# Altium schematic symbol library Leonardo.SCHLIB: 33 symbols
Pins are listed as number, name and electrical type; pins without a type are passive.

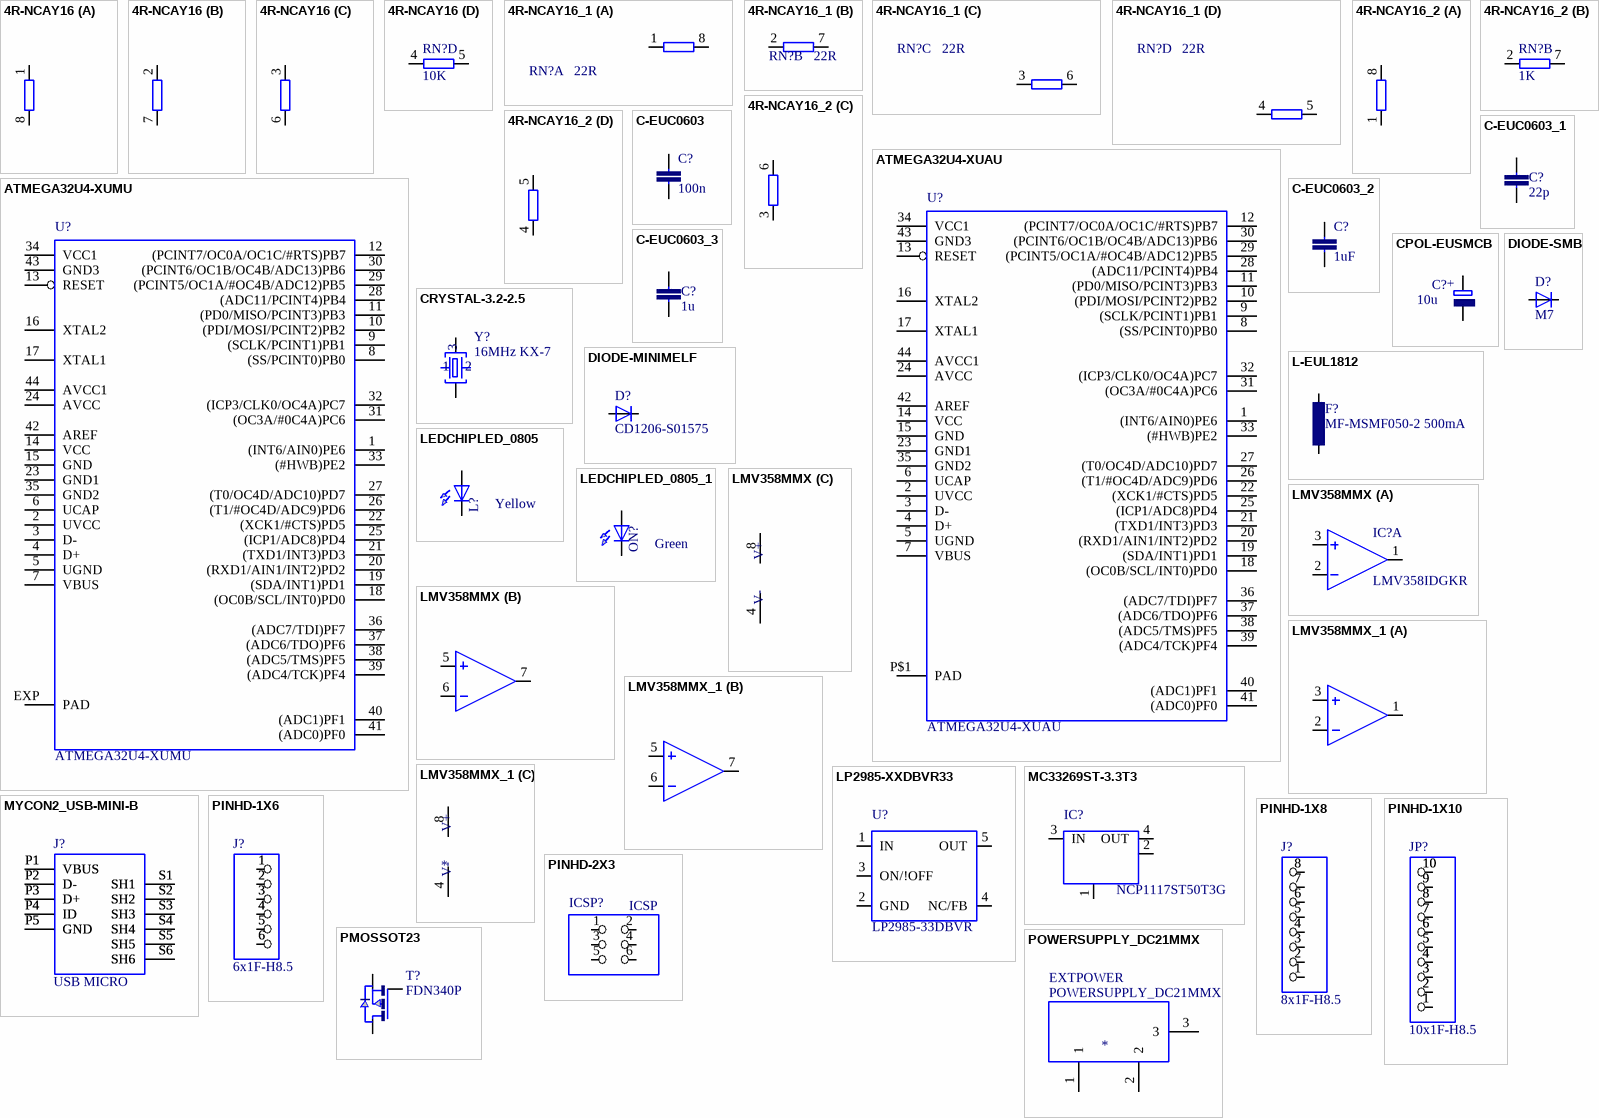
[diagram p0: symbols 4R-NCAY16 to POWERSUPPLY_DC21MMX]

## 4R-NCAY16
designator RN?, comment 10K
footprint CAY16
part A pins: 1, 8 2
part B pins: 2 1, 7 2
part C pins: 3 1, 6 2
part D pins: 4 1, 5 2

## 4R-NCAY16_1
designator RN?, comment 22R
footprint CAY16
part A pins: 1, 8 2
part B pins: 2 1, 7 2
part C pins: 3 1, 6 2
part D pins: 4 1, 5 2

## 4R-NCAY16_2
designator RN?, comment 1K
footprint CAY16
part A pins: 1, 8 2
part B pins: 2 1, 7 2
part C pins: 3 1, 6 2
part D pins: 4 1, 5 2

## ATMEGA32U4-XUAU
designator U?
footprint TQFP44-PAD
pins: 1 (INT6/AIN0)PE6, 2 UVCC, 3 D-, 4 D+, 5 UGND, 6 UCAP, 7 VBUS, 8 (SS/PCINT0)PB0, 9 (SCLK/PCINT1)PB1, 10 (PDI/MOSI/PCINT2)PB2, 11 (PD0/MISO/PCINT3)PB3, 12 (PCINT7/OC0A/OC1C/#RTS)PB7, 13 RESET, 14 VCC, 15 GND, 16 XTAL2, 17 XTAL1, 18 (OC0B/SCL/INT0)PD0, 19 (SDA/INT1)PD1, 20 (RXD1/AIN1/INT2)PD2, 21 (TXD1/INT3)PD3, 22 (XCK1/#CTS)PD5, 23 GND1, 24 AVCC, 25 (ICP1/ADC8)PD4, 26 (T1/#OC4D/ADC9)PD6, 27 (T0/OC4D/ADC10)PD7, 28 (ADC11/PCINT4)PB4, 29 (PCINT5/OC1A/#OC4B/ADC12)PB5, 30 (PCINT6/OC1B/OC4B/ADC13)PB6, 31 (OC3A/#0C4A)PC6, 32 (ICP3/CLK0/OC4A)PC7, 33 (#HWB)PE2, 34 VCC1, 35 GND2, 36 (ADC7/TDI)PF7, 37 (ADC6/TDO)PF6, 38 (ADC5/TMS)PF5, 39 (ADC4/TCK)PF4, 40 (ADC1)PF1, 41 (ADC0)PF0, 42 AREF, 43 GND3, 44 AVCC1, P$1 PAD

## ATMEGA32U4-XUMU
designator U?
footprint QFN44ML7X7
pins: 1 (INT6/AIN0)PE6, 2 UVCC, 3 D-, 4 D+, 5 UGND, 6 UCAP, 7 VBUS, 8 (SS/PCINT0)PB0, 9 (SCLK/PCINT1)PB1, 10 (PDI/MOSI/PCINT2)PB2, 11 (PD0/MISO/PCINT3)PB3, 12 (PCINT7/OC0A/OC1C/#RTS)PB7, 13 RESET, 14 VCC, 15 GND, 16 XTAL2, 17 XTAL1, 18 (OC0B/SCL/INT0)PD0, 19 (SDA/INT1)PD1, 20 (RXD1/AIN1/INT2)PD2, 21 (TXD1/INT3)PD3, 22 (XCK1/#CTS)PD5, 23 GND1, 24 AVCC, 25 (ICP1/ADC8)PD4, 26 (T1/#OC4D/ADC9)PD6, 27 (T0/OC4D/ADC10)PD7, 28 (ADC11/PCINT4)PB4, 29 (PCINT5/OC1A/#OC4B/ADC12)PB5, 30 (PCINT6/OC1B/OC4B/ADC13)PB6, 31 (OC3A/#0C4A)PC6, 32 (ICP3/CLK0/OC4A)PC7, 33 (#HWB)PE2, 34 VCC1, 35 GND2, 36 (ADC7/TDI)PF7, 37 (ADC6/TDO)PF6, 38 (ADC5/TMS)PF5, 39 (ADC4/TCK)PF4, 40 (ADC1)PF1, 41 (ADC0)PF0, 42 AREF, 43 GND3, 44 AVCC1, EXP PAD

## C-EUC0603
designator C?, comment 100n
footprint C0603-ROUND
pins: 1, 2

## C-EUC0603_1
designator C?, comment 22p
footprint C0603-ROUND
pins: 1, 2

## C-EUC0603_2
designator C?, comment 1uF
footprint C0603-ROUND
pins: 1, 2

## C-EUC0603_3
designator C?, comment 1u
footprint C0603-ROUND
pins: 1, 2

## CPOL-EUSMCB
designator C?, comment 10u
footprint SMC_B
pins: +, -

## CRYSTAL-3.2-2.5
designator Y?, comment 16MHz KX-7
footprint CRYSTAL-3.2-2.5
pins: 1 C1, 2 GND@1, 3 C2, 4 GND@2

## DIODE-MINIMELF
designator D?, comment CD1206-S01575
footprint MINIMELF
pins: A, C

## DIODE-SMB
designator D?, comment M7
footprint SMB
pins: A, C

## L-EUL1812
designator F?, comment MF-MSMF050-2 500mA
footprint L1812
pins: 1, 2

## LEDCHIPLED_0805
designator L?, comment Yellow
footprint CHIPLED_0805
pins: A, C

## LEDCHIPLED_0805_1
designator ON?, comment Green
footprint CHIPLED_0805
pins: A, C

## LMV358MMX
designator IC?, comment LMV358IDGKR
footprint MSOP08
part A pins: 1 OUT, 2 -IN, 3 +IN
part B pins: 5 +IN, 6 -IN, 7 OUT
part C pins: 4 V-, 8 V+

## LMV358MMX_1
designator IC?
footprint MSOP08
part A pins: 1 OUT, 2 -IN, 3 +IN
part B pins: 5 +IN, 6 -IN, 7 OUT
part C pins: 4 V-, 8 V+

## LP2985-XXDBVR33
designator U?, comment LP2985-33DBVR
footprint SOT23-DBV
pins: 1 IN, 2 GND, 3 ON/!OFF, 4 NC/FB, 5 OUT

## MC33269ST-3.3T3
designator IC?, comment NCP1117ST50T3G
footprint SOT223
pins: 1 GND/ADJ, 2 OUT@1, 3 IN, 4 OUT

## MYCON2_USB-MINI-B
designator J?, comment USB MICRO
footprint CON2_USB_MICRO_B_AT
pins: P1 VBUS, P1 VBUS, P1 VBUS, P2 D-, P2 D-, P2 D-, P3 D+, P3 D+, P3 D+, P4 ID, P4 ID, P4 ID, P5 GND, P5 GND, P5 GND, S1 SH1, S1 SH1, S1 SH1, S2 SH2, S2 SH2, S2 SH2, S3 SH3, S3 SH3, S3 SH3, S4 SH4, S4 SH4, S4 SH4, S5 SH5, S5 SH5, S5 SH5, S6 SH6, S6 SH6, S6 SH6

## PINHD-1X6
designator J?, comment 6x1F-H8.5
footprint 1X06
pins: 1, 1, 1, 2, 2, 2, 3, 3, 3, 4, 4, 4, 5, 5, 5, 6, 6, 6

## PINHD-1X8
designator J?, comment 8x1F-H8.5
footprint 1X08
pins: 1, 1, 2, 2, 3, 3, 4, 4, 5, 5, 6, 6, 7, 7, 8, 8

## PINHD-1X10
designator JP?, comment 10x1F-H8.5
footprint 1X10
pins: 1, 1, 1, 2, 2, 2, 3, 3, 3, 4, 4, 4, 5, 5, 5, 6, 6, 6, 7, 7, 7, 8, 8, 8, 9, 9, 9, 10, 10, 10

## PINHD-2X3
designator ICSP?, comment ICSP
footprint 2X03
pins: 1, 2, 3, 4, 5, 6

## PMOSSOT23
designator T?, comment FDN340P
footprint SOT-23
pins: 1 D, 2 S, 3 G

## POWERSUPPLY_DC21MMX
designator EXTPOWER?
footprint POWERSUPPLY_DC-21MM
pins: 1, 2, 3
text: EXTPOWER

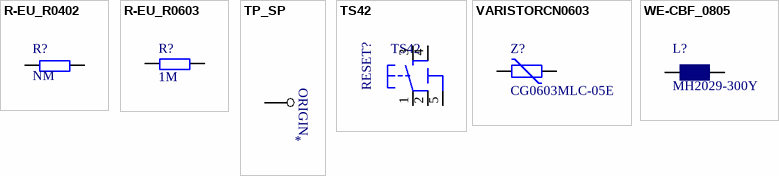
[diagram p1: symbols R-EU_R0402 to WE-CBF_0805]

## R-EU_R0402
designator R?, comment NM
footprint 0805
pins: 1, 2

## R-EU_R0603
designator R?, comment 1M
footprint R0603-ROUND
pins: 1, 2

## TP_SP
designator ORIGIN?
footprint FIDUCIA-MOUNT
pins: X TESTP
text: ORIGIN

## TS42
designator RESET?
footprint TS42
pins: 1, 2, 3, 4, 5 5-GND

## VARISTORCN0603
designator Z?, comment CG0603MLC-05E
footprint CT/CN0603
pins: 1, 2

## WE-CBF_0805
designator L?, comment MH2029-300Y
footprint 0805
pins: 1, 2